# Altium footprint library Crystal.PcbLib: 5 footprints
Each footprint in its own frame and in the unit in brackets; x right, y up, seen from the top. Pads: shape width x height; smd on the part's side, far side on the other; paste and mask are expansions set on the pad; w line width, h text height; cw(c..) or ccw(c..) is an arc to the next point about the centre after c.
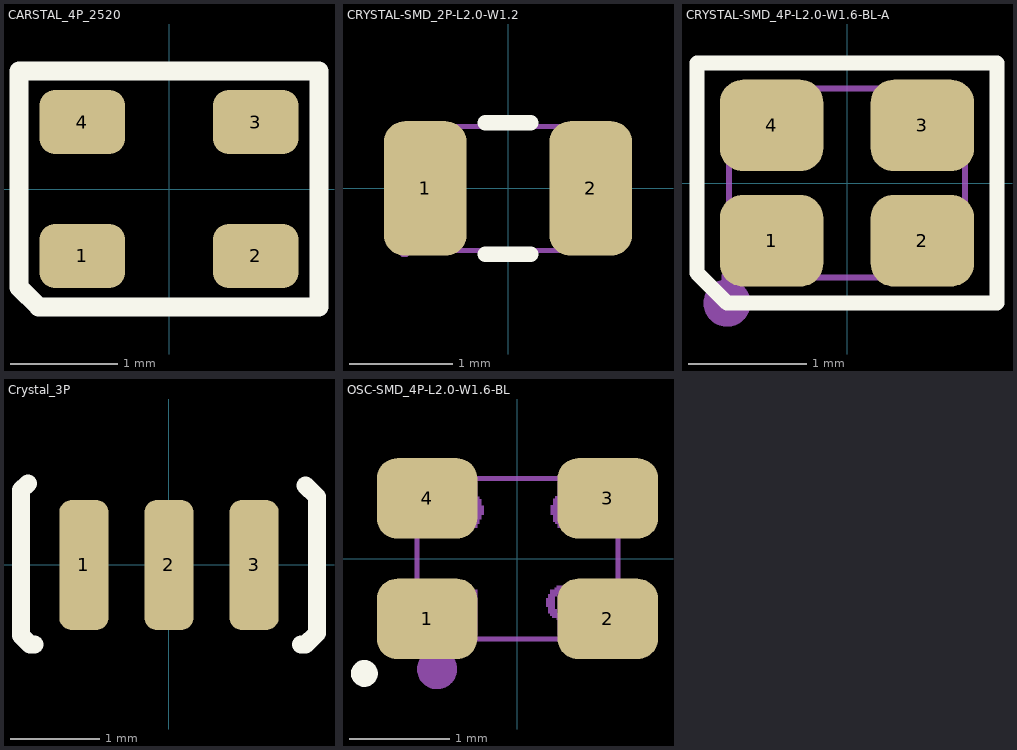
[diagram p0: the footprints below, top view; thin cyan lines are the x and y axes]

## CARSTAL_4P_2520 [mm] "CARSTAL_2520"
height 0.8
pads (4):
  rrect50% 0.8x0.6 smd: 1(-0.81,-0.625) 2(0.81,-0.625) 3(0.81,0.625) 4(-0.81,0.625)
Top Overlay:
  lines w0.178: -1.4,-0.917 -1.4,1.1 1.4,1.1 1.4,-1.1 -1.217,-1.1 -1.4,-0.917
3D body "User Library-Crystal NDK NX2520SA series.STEP": height 0.55, standoff 0, extent -1.3,-1.05 1.3,1.05

## CRYSTAL-SMD_2P-L2.0-W1.2 [mm]
pads (2):
  rrect50% 0.8x1.3 smd paste+0.051: 1(-0.8,0) 2(0.8,0)
Top Overlay:
  lines w0.152: -0.22,-0.635 0.22,-0.635 ; -0.22,0.635 0.22,0.635
Mechanical 6:
  lines w0.051: -1,-0.6 1,-0.6 1,0.6 -1,0.6 -1,-0.6
Mechanical 8:
  region: -0.94,-0.6 -0.94,-0.625 -0.975,-0.66 -1.025,-0.66 -1.06,-0.625 -1.06,-0.6 -1.06,-0.575 -1.025,-0.54 -0.975,-0.54 -0.94,-0.575 -0.94,-0.6
Mechanical 9:
  region: -1,0.6 -0.5,0.6 -0.5,-0.6 -1,-0.6
  region: 0.5,0.6 1,0.6 1,-0.6 0.5,-0.6

## CRYSTAL-SMD_4P-L2.0-W1.6-BL-A [mm]
pads (4):
  rrect50% 0.875x0.775 smd paste+0.051: 1(-0.638,-0.488) 2(0.638,-0.488) 3(0.638,0.488) 4(-0.638,0.488)
Top Overlay:
  lines w0.127: -1.27,-0.762 -1.016,-1.016 1.27,-1.016 1.27,1.016 -1.27,1.016 -1.27,-0.762
Mechanical 2:
  circle w0.2: c-1.016,-1.016 r0.1
Mechanical 6:
  lines w0.051: -1,-0.8 1,-0.8 1,0.8 -1,0.8 -1,-0.8
Mechanical 8:
  region: -0.94,-0.8 -0.94,-0.825 -0.975,-0.86 -1.025,-0.86 -1.06,-0.825 -1.06,-0.8 -1.06,-0.775 -1.025,-0.74 -0.975,-0.74 -0.94,-0.775 -0.94,-0.8
Mechanical 9:
  region: -1,0.8 -0.325,0.8 -0.325,0.225 -1,0.225
  region: 0.325,0.8 1,0.8 1,0.225 0.325,0.225
  region: 0.325,-0.225 1,-0.225 1,-0.8 0.325,-0.8
  region: -1,-0.225 -0.325,-0.225 -0.325,-0.8 -1,-0.8

## Crystal_3P [mm] "村田三脚贴片晶振"
height 4.3
pads (3):
  rrect50% 0.55x1.45 smd: 1(-0.95,0) 2(0,0) 3(0.95,0)
Top Overlay:
  lines w0.2: -1.576,0.911 -1.651,0.836 -1.651,-0.789 -1.551,-0.889 -1.501,-0.889 ; 1.474,-0.889 1.524,-0.889 1.651,-0.762 1.651,0.762 1.524,0.889
3D body "123123123.stp": height 0.7, standoff 0, extent -1.6,-0.65 1.6,0.65
3D body: height 0, standoff 0, extent 1.474,-0.89 1.652,0.89
3D body: height 0, standoff 0, extent 1.474,-0.89 1.652,0.89

## OSC-SMD_4P-L2.0-W1.6-BL [mm]
pads (4):
  rrect50% 1x0.8 smd mask+0.051: 1(-0.9,-0.6) 2(0.9,-0.6) 3(0.9,0.6) 4(-0.9,0.6)
Top Overlay:
  circle w0.14: c-1.524,-1.143 r0.064
Mechanical 6:
  drawing of 242 lines, arcs and shapes, not listed
Mechanical 15:
  region: 0.975,0.767 0.975,0.31 0.4,0.31 0.4,0.767
  region: -0.975,-0.764 -0.975,-0.307 -0.4,-0.307 -0.4,-0.764
  region: 0.4,-0.764 0.4,-0.307 0.975,-0.307 0.975,-0.764
  region: -0.4,0.767 -0.4,0.31 -0.975,0.31 -0.975,0.767
  region: -0.94,-0.8 -0.94,-0.775 -0.975,-0.74 -1.025,-0.74 -1.06,-0.775 -1.06,-0.8 -1.06,-0.825 -1.025,-0.86 -0.975,-0.86 -0.94,-0.825 -0.94,-0.8
  lines w0.051: -1,-0.8 1,-0.8 1,0.8 -1,0.8 -1,-0.8